# Altium schematic symbol library WE-SPXO.SchLib: 233 symbols (part 1 of 4)
Pins are listed as number, name and electrical type; pins without a type are passive.

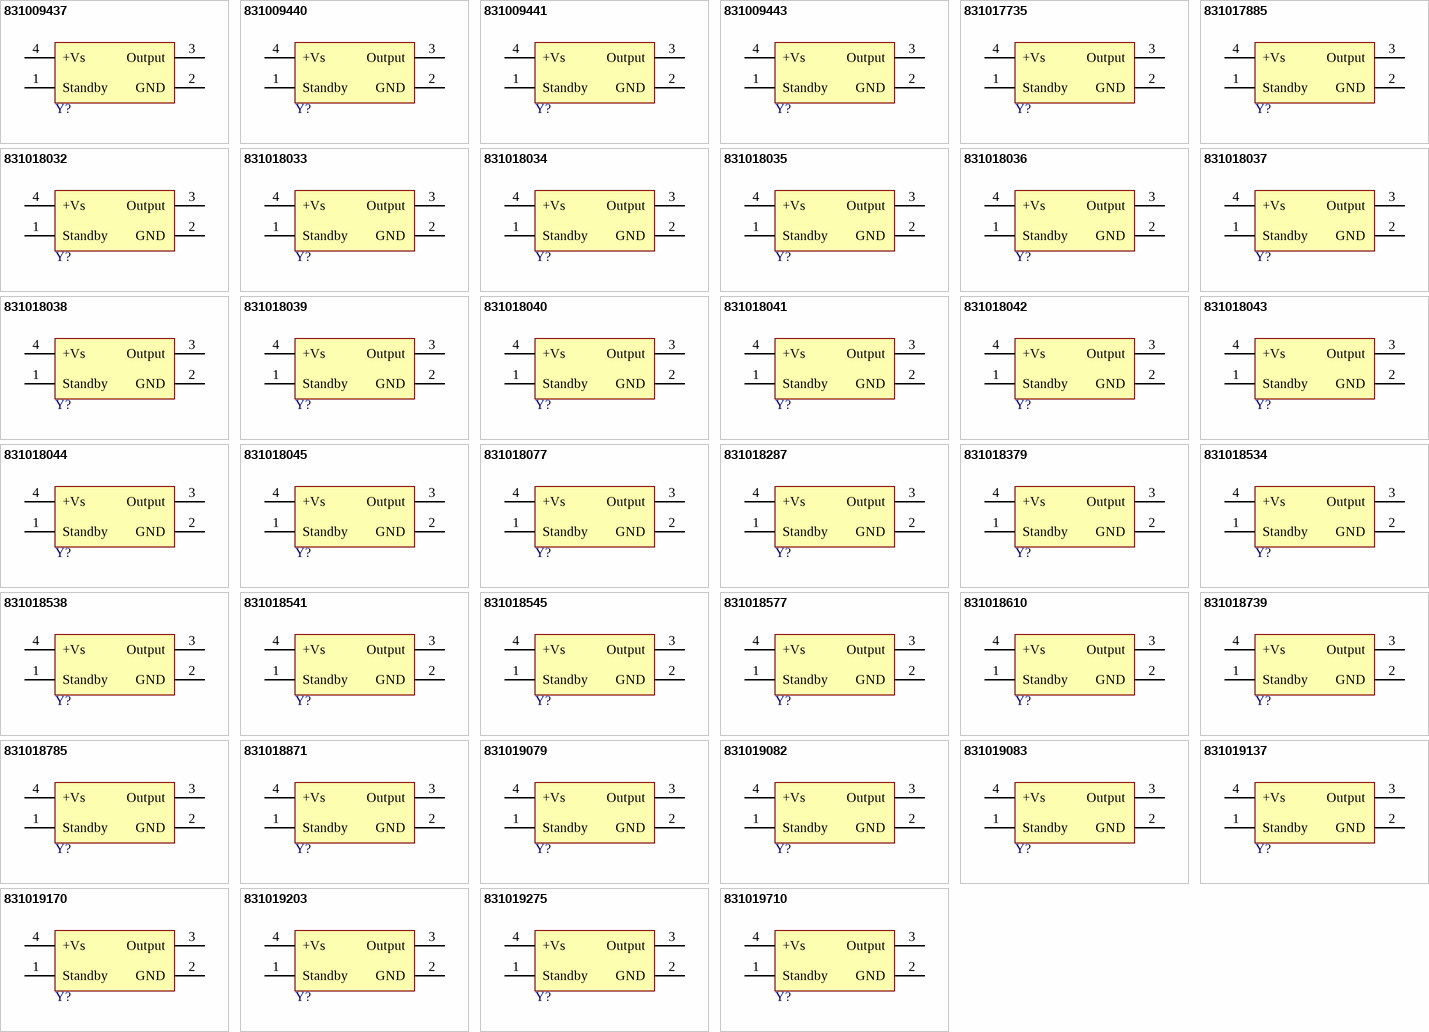
[diagram p0: symbols 831009437 to 831019710]

## 831009437
designator Y?, comment 100MHz, 3.3V  (value not drawn)
WE-SPXO Simple Packaged Quartz Oscillator, SMT, CFPS-73, 100MHz, 3.3V; Manufacturer Part Number: 831009437; Manufacturer: Wurth Elektronik; Frequency Stability: +/-50ppm; ComponentLink1Description: Website Link; ComponentLink1URL: https://www.we-online.com/redexpert/article/831009437?ad; ComponentLink2Description: Datasheet Link; ComponentLink2URL: https://www.we-online.com/redexpert/spec/831009437?ad; Category: Oscillators; Match Code: WE-SPXO; Mount: Surface Mount; Operating Temperature Max: 70°C; Operating Temperature Min: 0°C; Packaging: Tape and Reel; Case/Size Code: CFPS-73; Length: 7.2mm; Width: 5.2mm; Height: 1.4mm; Frequency: 100MHz; Supply Voltage: 3.3V
footprint WE-SPXO_CFPS-73
pins: 1 Standby, 2 GND, 3 Output, 4 +Vs

## 831009440
designator Y?, comment 125MHz, 3.3V  (value not drawn)
WE-SPXO Simple Packaged Quartz Oscillator, SMT, CFPS-73, 125MHz, 3.3V; Manufacturer Part Number: 831009440; Manufacturer: Wurth Elektronik; Frequency Stability: +/-50ppm; ComponentLink1Description: Website Link; ComponentLink1URL: https://www.we-online.com/redexpert/article/831009440?ad; ComponentLink2Description: Datasheet Link; ComponentLink2URL: https://www.we-online.com/redexpert/spec/831009440?ad; Category: Oscillators; Match Code: WE-SPXO; Mount: Surface Mount; Operating Temperature Max: 70°C; Operating Temperature Min: 0°C; Packaging: Tape and Reel; Case/Size Code: CFPS-73; Length: 7.2mm; Width: 5.2mm; Height: 1.4mm; Frequency: 125MHz; Supply Voltage: 3.3V
footprint WE-SPXO_CFPS-73
pins: 1 Standby, 2 GND, 3 Output, 4 +Vs

## 831009441
designator Y?, comment 80MHz, 3.3V  (value not drawn)
WE-SPXO Simple Packaged Quartz Oscillator, SMT, CFPS-73, 80MHz, 3.3V; Manufacturer Part Number: 831009441; Manufacturer: Wurth Elektronik; Frequency Stability: +/-50ppm; ComponentLink1Description: Website Link; ComponentLink1URL: https://www.we-online.com/redexpert/article/831009441?ad; ComponentLink2Description: Datasheet Link; ComponentLink2URL: https://www.we-online.com/redexpert/spec/831009441?ad; Category: Oscillators; Match Code: WE-SPXO; Mount: Surface Mount; Operating Temperature Max: 70°C; Operating Temperature Min: 0°C; Packaging: Tape and Reel; Case/Size Code: CFPS-73; Length: 7.2mm; Width: 5.2mm; Height: 1.4mm; Frequency: 80MHz; Supply Voltage: 3.3V
footprint WE-SPXO_CFPS-73
pins: 1 Standby, 2 GND, 3 Output, 4 +Vs

## 831009443
designator Y?, comment 80MHz, 5V  (value not drawn)
WE-SPXO Simple Packaged Quartz Oscillator, SMT, CFPS-72, 80MHz, 5V; Manufacturer Part Number: 831009443; Manufacturer: Wurth Elektronik; Frequency Stability: +/-50ppm; ComponentLink1Description: Website Link; ComponentLink1URL: https://www.we-online.com/redexpert/article/831009443?ad; ComponentLink2Description: Datasheet Link; ComponentLink2URL: https://www.we-online.com/redexpert/spec/831009443?ad; Category: Oscillators; Match Code: WE-SPXO; Mount: Surface Mount; Operating Temperature Max: 70°C; Operating Temperature Min: 0°C; Packaging: Tape and Reel; Case/Size Code: CFPS-72; Length: 7.2mm; Width: 5.2mm; Height: 1.4mm; Frequency: 80MHz; Supply Voltage: 5V
footprint WE-SPXO_CFPS-72
pins: 1 Standby, 2 GND, 3 Output, 4 +Vs

## 831017735
designator Y?, comment 10MHz, 5V  (value not drawn)
WE-SPXO Simple Packaged Quartz Oscillator, SMT, CFPS-72, 10MHz, 5V; Manufacturer Part Number: 831017735; Manufacturer: Wurth Elektronik; Frequency Stability: +/-50ppm; ComponentLink1Description: Website Link; ComponentLink1URL: https://www.we-online.com/redexpert/article/831017735?ad; ComponentLink2Description: Datasheet Link; ComponentLink2URL: https://www.we-online.com/redexpert/spec/831017735?ad; Category: Oscillators; Match Code: WE-SPXO; Mount: Surface Mount; Operating Temperature Max: 70°C; Operating Temperature Min: 0°C; Packaging: Tape and Reel; Case/Size Code: CFPS-72; Length: 7.2mm; Width: 5.2mm; Height: 1.4mm; Frequency: 10MHz; Supply Voltage: 5V
footprint WE-SPXO_CFPS-72
pins: 1 Standby, 2 GND, 3 Output, 4 +Vs

## 831017885
designator Y?, comment 40MHz, 3.3V  (value not drawn)
WE-SPXO Simple Packaged Quartz Oscillator, SMT, CFPS-73, 40MHz, 3.3V; Manufacturer Part Number: 831017885; Manufacturer: Wurth Elektronik; Frequency Stability: +/-50ppm; ComponentLink1Description: Website Link; ComponentLink1URL: https://www.we-online.com/redexpert/article/831017885?ad; ComponentLink2Description: Datasheet Link; ComponentLink2URL: https://www.we-online.com/redexpert/spec/831017885?ad; Category: Oscillators; Match Code: WE-SPXO; Mount: Surface Mount; Operating Temperature Max: 85°C; Operating Temperature Min: -40°C; Packaging: Tape and Reel; Case/Size Code: CFPS-73; Length: 7.2mm; Width: 5.2mm; Height: 1.4mm; Frequency: 40MHz; Supply Voltage: 3.3V
footprint WE-SPXO_CFPS-73
pins: 1 Standby, 2 GND, 3 Output, 4 +Vs

## 831018032
designator Y?, comment 20MHz, 5V  (value not drawn)
WE-SPXO Simple Packaged Quartz Oscillator, SMT, CFPS-72, 20MHz, 5V; Manufacturer Part Number: 831018032; Manufacturer: Wurth Elektronik; Frequency Stability: +/-50ppm; ComponentLink1Description: Website Link; ComponentLink1URL: https://www.we-online.com/redexpert/article/831018032?ad; ComponentLink2Description: Datasheet Link; ComponentLink2URL: https://www.we-online.com/redexpert/spec/831018032?ad; Category: Oscillators; Match Code: WE-SPXO; Mount: Surface Mount; Operating Temperature Max: 70°C; Operating Temperature Min: 0°C; Packaging: Tape and Reel; Case/Size Code: CFPS-72; Length: 7.2mm; Width: 5.2mm; Height: 1.4mm; Frequency: 20MHz; Supply Voltage: 5V
footprint WE-SPXO_CFPS-72
pins: 1 Standby, 2 GND, 3 Output, 4 +Vs

## 831018033
designator Y?, comment 4MHz, 5V  (value not drawn)
WE-SPXO Simple Packaged Quartz Oscillator, SMT, CFPS-72, 4MHz, 5V; Manufacturer Part Number: 831018033; Manufacturer: Wurth Elektronik; Frequency Stability: +/-50ppm; ComponentLink1Description: Website Link; ComponentLink1URL: https://www.we-online.com/redexpert/article/831018033?ad; ComponentLink2Description: Datasheet Link; ComponentLink2URL: https://www.we-online.com/redexpert/spec/831018033?ad; Category: Oscillators; Match Code: WE-SPXO; Mount: Surface Mount; Operating Temperature Max: 70°C; Operating Temperature Min: 0°C; Packaging: Tape and Reel; Case/Size Code: CFPS-72; Length: 7.2mm; Width: 5.2mm; Height: 1.4mm; Frequency: 4MHz; Supply Voltage: 5V
footprint WE-SPXO_CFPS-72
pins: 1 Standby, 2 GND, 3 Output, 4 +Vs

## 831018034
designator Y?, comment 16MHz, 5V  (value not drawn)
WE-SPXO Simple Packaged Quartz Oscillator, SMT, CFPS-72, 16MHz, 5V; Manufacturer Part Number: 831018034; Manufacturer: Wurth Elektronik; Frequency Stability: +/-50ppm; ComponentLink1Description: Website Link; ComponentLink1URL: https://www.we-online.com/redexpert/article/831018034?ad; ComponentLink2Description: Datasheet Link; ComponentLink2URL: https://www.we-online.com/redexpert/spec/831018034?ad; Category: Oscillators; Match Code: WE-SPXO; Mount: Surface Mount; Operating Temperature Max: 70°C; Operating Temperature Min: 0°C; Packaging: Tape and Reel; Case/Size Code: CFPS-72; Length: 7.2mm; Width: 5.2mm; Height: 1.4mm; Frequency: 16MHz; Supply Voltage: 5V
footprint WE-SPXO_CFPS-72
pins: 1 Standby, 2 GND, 3 Output, 4 +Vs

## 831018035
designator Y?, comment 50MHz, 5V  (value not drawn)
WE-SPXO Simple Packaged Quartz Oscillator, SMT, CFPS-72, 50MHz, 5V; Manufacturer Part Number: 831018035; Manufacturer: Wurth Elektronik; Frequency Stability: +/-50ppm; ComponentLink1Description: Website Link; ComponentLink1URL: https://www.we-online.com/redexpert/article/831018035?ad; ComponentLink2Description: Datasheet Link; ComponentLink2URL: https://www.we-online.com/redexpert/spec/831018035?ad; Category: Oscillators; Match Code: WE-SPXO; Mount: Surface Mount; Operating Temperature Max: 70°C; Operating Temperature Min: 0°C; Packaging: Tape and Reel; Case/Size Code: CFPS-72; Length: 7.2mm; Width: 5.2mm; Height: 1.4mm; Frequency: 50MHz; Supply Voltage: 5V
footprint WE-SPXO_CFPS-72
pins: 1 Standby, 2 GND, 3 Output, 4 +Vs

## 831018036
designator Y?, comment 10MHz, 3.3V  (value not drawn)
WE-SPXO Simple Packaged Quartz Oscillator, SMT, CFPS-73, 10MHz, 3.3V; Manufacturer Part Number: 831018036; Manufacturer: Wurth Elektronik; Frequency Stability: +/-50ppm; ComponentLink1Description: Website Link; ComponentLink1URL: https://www.we-online.com/redexpert/article/831018036?ad; ComponentLink2Description: Datasheet Link; ComponentLink2URL: https://www.we-online.com/redexpert/spec/831018036?ad; Category: Oscillators; Match Code: WE-SPXO; Mount: Surface Mount; Operating Temperature Max: 70°C; Operating Temperature Min: 0°C; Packaging: Tape and Reel; Case/Size Code: CFPS-73; Length: 7.2mm; Width: 5.2mm; Height: 1.4mm; Frequency: 10MHz; Supply Voltage: 3.3V
footprint WE-SPXO_CFPS-73
pins: 1 Standby, 2 GND, 3 Output, 4 +Vs

## 831018037
designator Y?, comment 12MHz, 3.3V  (value not drawn)
WE-SPXO Simple Packaged Quartz Oscillator, SMT, CFPS-73, 12MHz, 3.3V; Manufacturer Part Number: 831018037; Manufacturer: Wurth Elektronik; Frequency Stability: +/-50ppm; ComponentLink1Description: Website Link; ComponentLink1URL: https://www.we-online.com/redexpert/article/831018037?ad; ComponentLink2Description: Datasheet Link; ComponentLink2URL: https://www.we-online.com/redexpert/spec/831018037?ad; Category: Oscillators; Match Code: WE-SPXO; Mount: Surface Mount; Operating Temperature Max: 70°C; Operating Temperature Min: 0°C; Packaging: Tape and Reel; Case/Size Code: CFPS-73; Length: 7.2mm; Width: 5.2mm; Height: 1.4mm; Frequency: 12MHz; Supply Voltage: 3.3V
footprint WE-SPXO_CFPS-73
pins: 1 Standby, 2 GND, 3 Output, 4 +Vs

## 831018038
designator Y?, comment 16MHz, 3.3V  (value not drawn)
WE-SPXO Simple Packaged Quartz Oscillator, SMT, CFPS-73, 16MHz, 3.3V; Manufacturer Part Number: 831018038; Manufacturer: Wurth Elektronik; Frequency Stability: +/-50ppm; ComponentLink1Description: Website Link; ComponentLink1URL: https://www.we-online.com/redexpert/article/831018038?ad; ComponentLink2Description: Datasheet Link; ComponentLink2URL: https://www.we-online.com/redexpert/spec/831018038?ad; Category: Oscillators; Match Code: WE-SPXO; Mount: Surface Mount; Operating Temperature Max: 70°C; Operating Temperature Min: 0°C; Packaging: Tape and Reel; Case/Size Code: CFPS-73; Length: 7.2mm; Width: 5.2mm; Height: 1.4mm; Frequency: 16MHz; Supply Voltage: 3.3V
footprint WE-SPXO_CFPS-73
pins: 1 Standby, 2 GND, 3 Output, 4 +Vs

## 831018039
designator Y?, comment 20MHz, 3.3V  (value not drawn)
WE-SPXO Simple Packaged Quartz Oscillator, SMT, CFPS-73, 20MHz, 3.3V; Manufacturer Part Number: 831018039; Manufacturer: Wurth Elektronik; Frequency Stability: +/-50ppm; ComponentLink1Description: Website Link; ComponentLink1URL: https://www.we-online.com/redexpert/article/831018039?ad; ComponentLink2Description: Datasheet Link; ComponentLink2URL: https://www.we-online.com/redexpert/spec/831018039?ad; Category: Oscillators; Match Code: WE-SPXO; Mount: Surface Mount; Operating Temperature Max: 70°C; Operating Temperature Min: 0°C; Packaging: Tape and Reel; Case/Size Code: CFPS-73; Length: 7.2mm; Width: 5.2mm; Height: 1.4mm; Frequency: 20MHz; Supply Voltage: 3.3V
footprint WE-SPXO_CFPS-73
pins: 1 Standby, 2 GND, 3 Output, 4 +Vs

## 831018040
designator Y?, comment 32MHz, 3.3V  (value not drawn)
WE-SPXO Simple Packaged Quartz Oscillator, SMT, CFPS-73, 32MHz, 3.3V; Manufacturer Part Number: 831018040; Manufacturer: Wurth Elektronik; Frequency Stability: +/-50ppm; ComponentLink1Description: Website Link; ComponentLink1URL: https://www.we-online.com/redexpert/article/831018040?ad; ComponentLink2Description: Datasheet Link; ComponentLink2URL: https://www.we-online.com/redexpert/spec/831018040?ad; Category: Oscillators; Match Code: WE-SPXO; Mount: Surface Mount; Operating Temperature Max: 70°C; Operating Temperature Min: 0°C; Packaging: Tape and Reel; Case/Size Code: CFPS-73; Length: 7.2mm; Width: 5.2mm; Height: 1.4mm; Frequency: 32MHz; Supply Voltage: 3.3V
footprint WE-SPXO_CFPS-73
pins: 1 Standby, 2 GND, 3 Output, 4 +Vs

## 831018041
designator Y?, comment 4MHz, 3.3V  (value not drawn)
WE-SPXO Simple Packaged Quartz Oscillator, SMT, CFPS-73, 4MHz, 3.3V; Manufacturer Part Number: 831018041; Manufacturer: Wurth Elektronik; Frequency Stability: +/-50ppm; ComponentLink1Description: Website Link; ComponentLink1URL: https://www.we-online.com/redexpert/article/831018041?ad; ComponentLink2Description: Datasheet Link; ComponentLink2URL: https://www.we-online.com/redexpert/spec/831018041?ad; Category: Oscillators; Match Code: WE-SPXO; Mount: Surface Mount; Operating Temperature Max: 70°C; Operating Temperature Min: 0°C; Packaging: Tape and Reel; Case/Size Code: CFPS-73; Length: 7.2mm; Width: 5.2mm; Height: 1.4mm; Frequency: 4MHz; Supply Voltage: 3.3V
footprint WE-SPXO_CFPS-73
pins: 1 Standby, 2 GND, 3 Output, 4 +Vs

## 831018042
designator Y?, comment 40MHz, 3.3V  (value not drawn)
WE-SPXO Simple Packaged Quartz Oscillator, SMT, CFPS-73, 40MHz, 3.3V; Manufacturer Part Number: 831018042; Manufacturer: Wurth Elektronik; Frequency Stability: +/-50ppm; ComponentLink1Description: Website Link; ComponentLink1URL: https://www.we-online.com/redexpert/article/831018042?ad; ComponentLink2Description: Datasheet Link; ComponentLink2URL: https://www.we-online.com/redexpert/spec/831018042?ad; Category: Oscillators; Match Code: WE-SPXO; Mount: Surface Mount; Operating Temperature Max: 70°C; Operating Temperature Min: 0°C; Packaging: Tape and Reel; Case/Size Code: CFPS-73; Length: 7.2mm; Width: 5.2mm; Height: 1.4mm; Frequency: 40MHz; Supply Voltage: 3.3V
footprint WE-SPXO_CFPS-73
pins: 1 Standby, 2 GND, 3 Output, 4 +Vs

## 831018043
designator Y?, comment 48MHz, 3.3V  (value not drawn)
WE-SPXO Simple Packaged Quartz Oscillator, SMT, CFPS-73, 48MHz, 3.3V; Manufacturer Part Number: 831018043; Manufacturer: Wurth Elektronik; Frequency Stability: +/-50ppm; ComponentLink1Description: Website Link; ComponentLink1URL: https://www.we-online.com/redexpert/article/831018043?ad; ComponentLink2Description: Datasheet Link; ComponentLink2URL: https://www.we-online.com/redexpert/spec/831018043?ad; Category: Oscillators; Match Code: WE-SPXO; Mount: Surface Mount; Operating Temperature Max: 70°C; Operating Temperature Min: 0°C; Packaging: Tape and Reel; Case/Size Code: CFPS-73; Length: 7.2mm; Width: 5.2mm; Height: 1.4mm; Frequency: 48MHz; Supply Voltage: 3.3V
footprint WE-SPXO_CFPS-73
pins: 1 Standby, 2 GND, 3 Output, 4 +Vs

## 831018044
designator Y?, comment 50MHz, 3.3V  (value not drawn)
WE-SPXO Simple Packaged Quartz Oscillator, SMT, CFPS-73, 50MHz, 3.3V; Manufacturer Part Number: 831018044; Manufacturer: Wurth Elektronik; Frequency Stability: +/-50ppm; ComponentLink1Description: Website Link; ComponentLink1URL: https://www.we-online.com/redexpert/article/831018044?ad; ComponentLink2Description: Datasheet Link; ComponentLink2URL: https://www.we-online.com/redexpert/spec/831018044?ad; Category: Oscillators; Match Code: WE-SPXO; Mount: Surface Mount; Operating Temperature Max: 70°C; Operating Temperature Min: 0°C; Packaging: Tape and Reel; Case/Size Code: CFPS-73; Length: 7.2mm; Width: 5.2mm; Height: 1.4mm; Frequency: 50MHz; Supply Voltage: 3.3V
footprint WE-SPXO_CFPS-73
pins: 1 Standby, 2 GND, 3 Output, 4 +Vs

## 831018045
designator Y?, comment 8MHz, 3.3V  (value not drawn)
WE-SPXO Simple Packaged Quartz Oscillator, SMT, CFPS-73, 8MHz, 3.3V; Manufacturer Part Number: 831018045; Manufacturer: Wurth Elektronik; Frequency Stability: +/-50ppm; ComponentLink1Description: Website Link; ComponentLink1URL: https://www.we-online.com/redexpert/article/831018045?ad; ComponentLink2Description: Datasheet Link; ComponentLink2URL: https://www.we-online.com/redexpert/spec/831018045?ad; Category: Oscillators; Match Code: WE-SPXO; Mount: Surface Mount; Operating Temperature Max: 70°C; Operating Temperature Min: 0°C; Packaging: Tape and Reel; Case/Size Code: CFPS-73; Length: 7.2mm; Width: 5.2mm; Height: 1.4mm; Frequency: 8MHz; Supply Voltage: 3.3V
footprint WE-SPXO_CFPS-73
pins: 1 Standby, 2 GND, 3 Output, 4 +Vs

## 831018077
designator Y?, comment 25MHz, 3.3V  (value not drawn)
WE-SPXO Simple Packaged Quartz Oscillator, SMT, CFPS-73, 25MHz, 3.3V; Manufacturer Part Number: 831018077; Manufacturer: Wurth Elektronik; Frequency Stability: +/-50ppm; ComponentLink1Description: Website Link; ComponentLink1URL: https://www.we-online.com/redexpert/article/831018077?ad; ComponentLink2Description: Datasheet Link; ComponentLink2URL: https://www.we-online.com/redexpert/spec/831018077?ad; Category: Oscillators; Match Code: WE-SPXO; Mount: Surface Mount; Operating Temperature Max: 70°C; Operating Temperature Min: 0°C; Packaging: Tape and Reel; Case/Size Code: CFPS-73; Length: 7.2mm; Width: 5.2mm; Height: 1.4mm; Frequency: 25MHz; Supply Voltage: 3.3V
footprint WE-SPXO_CFPS-73
pins: 1 Standby, 2 GND, 3 Output, 4 +Vs

## 831018287
designator Y?, comment 48MHz, 3.3V  (value not drawn)
WE-SPXO Simple Packaged Quartz Oscillator, SMT, CFPS-73, 48MHz, 3.3V; Manufacturer Part Number: 831018287; Manufacturer: Wurth Elektronik; Frequency Stability: +/-100ppm; ComponentLink1Description: Website Link; ComponentLink1URL: https://www.we-online.com/redexpert/article/831018287?ad; ComponentLink2Description: Datasheet Link; ComponentLink2URL: https://www.we-online.com/redexpert/spec/831018287?ad; Category: Oscillators; Match Code: WE-SPXO; Mount: Surface Mount; Operating Temperature Max: 85°C; Operating Temperature Min: -40°C; Packaging: Tape and Reel; Case/Size Code: CFPS-73; Length: 7.2mm; Width: 5.2mm; Height: 1.4mm; Frequency: 48MHz; Supply Voltage: 3.3V
footprint WE-SPXO_CFPS-73
pins: 1 Standby, 2 GND, 3 Output, 4 +Vs

## 831018379
designator Y?, comment 4MHz, 3.3V  (value not drawn)
WE-SPXO Simple Packaged Quartz Oscillator, SMT, CFPS-73, 4MHz, 3.3V; Manufacturer Part Number: 831018379; Manufacturer: Wurth Elektronik; Frequency Stability: +/-50ppm; ComponentLink1Description: Website Link; ComponentLink1URL: https://www.we-online.com/redexpert/article/831018379?ad; ComponentLink2Description: Datasheet Link; ComponentLink2URL: https://www.we-online.com/redexpert/spec/831018379?ad; Category: Oscillators; Match Code: WE-SPXO; Mount: Surface Mount; Operating Temperature Max: 85°C; Operating Temperature Min: -40°C; Packaging: Tape and Reel; Case/Size Code: CFPS-73; Length: 7.2mm; Width: 5.2mm; Height: 1.4mm; Frequency: 4MHz; Supply Voltage: 3.3V
footprint WE-SPXO_CFPS-73
pins: 1 Standby, 2 GND, 3 Output, 4 +Vs

## 831018534
designator Y?, comment 6MHz, 3.3V  (value not drawn)
WE-SPXO Simple Packaged Quartz Oscillator, SMT, CFPS-73, 6MHz, 3.3V; Manufacturer Part Number: 831018534; Manufacturer: Wurth Elektronik; Frequency Stability: +/-50ppm; ComponentLink1Description: Website Link; ComponentLink1URL: https://www.we-online.com/redexpert/article/831018534?ad; ComponentLink2Description: Datasheet Link; ComponentLink2URL: https://www.we-online.com/redexpert/spec/831018534?ad; Category: Oscillators; Match Code: WE-SPXO; Mount: Surface Mount; Operating Temperature Max: 70°C; Operating Temperature Min: 0°C; Packaging: Tape and Reel; Case/Size Code: CFPS-73; Length: 7.2mm; Width: 5.2mm; Height: 1.4mm; Frequency: 6MHz; Supply Voltage: 3.3V
footprint WE-SPXO_CFPS-73
pins: 1 Standby, 2 GND, 3 Output, 4 +Vs

## 831018538
designator Y?, comment 14.31818MHz, 3.3V  (value not drawn)
WE-SPXO Simple Packaged Quartz Oscillator, SMT, CFPS-73, 14.31818MHz, 3.3V; Manufacturer Part Number: 831018538; Manufacturer: Wurth Elektronik; Frequency Stability: +/-50ppm; ComponentLink1Description: Website Link; ComponentLink1URL: https://www.we-online.com/redexpert/article/831018538?ad; ComponentLink2Description: Datasheet Link; ComponentLink2URL: https://www.we-online.com/redexpert/spec/831018538?ad; Category: Oscillators; Match Code: WE-SPXO; Mount: Surface Mount; Operating Temperature Max: 70°C; Operating Temperature Min: 0°C; Packaging: Tape and Reel; Case/Size Code: CFPS-73; Length: 7.2mm; Width: 5.2mm; Height: 1.4mm; Frequency: 14.31818MHz; Supply Voltage: 3.3V
footprint WE-SPXO_CFPS-73
pins: 1 Standby, 2 GND, 3 Output, 4 +Vs

## 831018541
designator Y?, comment 24MHz, 3.3V  (value not drawn)
WE-SPXO Simple Packaged Quartz Oscillator, SMT, CFPS-73, 24MHz, 3.3V; Manufacturer Part Number: 831018541; Manufacturer: Wurth Elektronik; Frequency Stability: +/-50ppm; ComponentLink1Description: Website Link; ComponentLink1URL: https://www.we-online.com/redexpert/article/831018541?ad; ComponentLink2Description: Datasheet Link; ComponentLink2URL: https://www.we-online.com/redexpert/spec/831018541?ad; Category: Oscillators; Match Code: WE-SPXO; Mount: Surface Mount; Operating Temperature Max: 70°C; Operating Temperature Min: 0°C; Packaging: Tape and Reel; Case/Size Code: CFPS-73; Length: 7.2mm; Width: 5.2mm; Height: 1.4mm; Frequency: 24MHz; Supply Voltage: 3.3V
footprint WE-SPXO_CFPS-73
pins: 1 Standby, 2 GND, 3 Output, 4 +Vs

## 831018545
designator Y?, comment 60MHz, 3.3V  (value not drawn)
WE-SPXO Simple Packaged Quartz Oscillator, SMT, CFPS-73, 60MHz, 3.3V; Manufacturer Part Number: 831018545; Manufacturer: Wurth Elektronik; Frequency Stability: +/-50ppm; ComponentLink1Description: Website Link; ComponentLink1URL: https://www.we-online.com/redexpert/article/831018545?ad; ComponentLink2Description: Datasheet Link; ComponentLink2URL: https://www.we-online.com/redexpert/spec/831018545?ad; Category: Oscillators; Match Code: WE-SPXO; Mount: Surface Mount; Operating Temperature Max: 70°C; Operating Temperature Min: 0°C; Packaging: Tape and Reel; Case/Size Code: CFPS-73; Length: 7.2mm; Width: 5.2mm; Height: 1.4mm; Frequency: 60MHz; Supply Voltage: 3.3V
footprint WE-SPXO_CFPS-73
pins: 1 Standby, 2 GND, 3 Output, 4 +Vs

## 831018577
designator Y?, comment 48MHz, 3.3V  (value not drawn)
WE-SPXO Simple Packaged Quartz Oscillator, SMT, CFPS-73, 48MHz, 3.3V; Manufacturer Part Number: 831018577; Manufacturer: Wurth Elektronik; Frequency Stability: +/-50ppm; ComponentLink1Description: Website Link; ComponentLink1URL: https://www.we-online.com/redexpert/article/831018577?ad; ComponentLink2Description: Datasheet Link; ComponentLink2URL: https://www.we-online.com/redexpert/spec/831018577?ad; Category: Oscillators; Match Code: WE-SPXO; Mount: Surface Mount; Operating Temperature Max: 85°C; Operating Temperature Min: -40°C; Packaging: Tape and Reel; Case/Size Code: CFPS-73; Length: 7.2mm; Width: 5.2mm; Height: 1.4mm; Frequency: 48MHz; Supply Voltage: 3.3V
footprint WE-SPXO_CFPS-73
pins: 1 Standby, 2 GND, 3 Output, 4 +Vs

## 831018610
designator Y?, comment 3.6864MHz, 3.3V  (value not drawn)
WE-SPXO Simple Packaged Quartz Oscillator, SMT, CFPS-73, 3.6864MHz, 3.3V; Manufacturer Part Number: 831018610; Manufacturer: Wurth Elektronik; Frequency Stability: +/-50ppm; ComponentLink1Description: Website Link; ComponentLink1URL: https://www.we-online.com/redexpert/article/831018610?ad; ComponentLink2Description: Datasheet Link; ComponentLink2URL: https://www.we-online.com/redexpert/spec/831018610?ad; Category: Oscillators; Match Code: WE-SPXO; Mount: Surface Mount; Operating Temperature Max: 70°C; Operating Temperature Min: 0°C; Packaging: Tape and Reel; Case/Size Code: CFPS-73; Length: 7.2mm; Width: 5.2mm; Height: 1.4mm; Frequency: 3.6864MHz; Supply Voltage: 3.3V
footprint WE-SPXO_CFPS-73
pins: 1 Standby, 2 GND, 3 Output, 4 +Vs

## 831018739
designator Y?, comment 40MHz, 5V  (value not drawn)
WE-SPXO Simple Packaged Quartz Oscillator, SMT, CFPS-72, 40MHz, 5V; Manufacturer Part Number: 831018739; Manufacturer: Wurth Elektronik; Frequency Stability: +/-50ppm; ComponentLink1Description: Website Link; ComponentLink1URL: https://www.we-online.com/redexpert/article/831018739?ad; ComponentLink2Description: Datasheet Link; ComponentLink2URL: https://www.we-online.com/redexpert/spec/831018739?ad; Category: Oscillators; Match Code: WE-SPXO; Mount: Surface Mount; Operating Temperature Max: 70°C; Operating Temperature Min: 0°C; Packaging: Tape and Reel; Case/Size Code: CFPS-72; Length: 7.2mm; Width: 5.2mm; Height: 1.4mm; Frequency: 40MHz; Supply Voltage: 5V
footprint WE-SPXO_CFPS-72
pins: 1 Standby, 2 GND, 3 Output, 4 +Vs

## 831018785
designator Y?, comment 12MHz, 3.3V  (value not drawn)
WE-SPXO Simple Packaged Quartz Oscillator, SMT, CFPS-73, 12MHz, 3.3V; Manufacturer Part Number: 831018785; Manufacturer: Wurth Elektronik; Frequency Stability: +/-100ppm; ComponentLink1Description: Website Link; ComponentLink1URL: https://www.we-online.com/redexpert/article/831018785?ad; ComponentLink2Description: Datasheet Link; ComponentLink2URL: https://www.we-online.com/redexpert/spec/831018785?ad; Category: Oscillators; Match Code: WE-SPXO; Mount: Surface Mount; Operating Temperature Max: 85°C; Operating Temperature Min: -40°C; Packaging: Tape and Reel; Case/Size Code: CFPS-73; Length: 7.2mm; Width: 5.2mm; Height: 1.4mm; Frequency: 12MHz; Supply Voltage: 3.3V
footprint WE-SPXO_CFPS-73
pins: 1 Standby, 2 GND, 3 Output, 4 +Vs

## 831018871
designator Y?, comment 48MHz, 5V  (value not drawn)
WE-SPXO Simple Packaged Quartz Oscillator, SMT, CFPS-72, 48MHz, 5V; Manufacturer Part Number: 831018871; Manufacturer: Wurth Elektronik; Frequency Stability: +/-100ppm; ComponentLink1Description: Website Link; ComponentLink1URL: https://www.we-online.com/redexpert/article/831018871?ad; ComponentLink2Description: Datasheet Link; ComponentLink2URL: https://www.we-online.com/redexpert/spec/831018871?ad; Category: Oscillators; Match Code: WE-SPXO; Mount: Surface Mount; Operating Temperature Max: 85°C; Operating Temperature Min: -40°C; Packaging: Tape and Reel; Case/Size Code: CFPS-72; Length: 7.2mm; Width: 5.2mm; Height: 1.4mm; Frequency: 48MHz; Supply Voltage: 5V
footprint WE-SPXO_CFPS-72
pins: 1 Standby, 2 GND, 3 Output, 4 +Vs

## 831019079
designator Y?, comment 8MHz, 5V  (value not drawn)
WE-SPXO Simple Packaged Quartz Oscillator, SMT, CFPS-72, 8MHz, 5V; Manufacturer Part Number: 831019079; Manufacturer: Wurth Elektronik; Frequency Stability: +/-50ppm; ComponentLink1Description: Website Link; ComponentLink1URL: https://www.we-online.com/redexpert/article/831019079?ad; ComponentLink2Description: Datasheet Link; ComponentLink2URL: https://www.we-online.com/redexpert/spec/831019079?ad; Category: Oscillators; Match Code: WE-SPXO; Mount: Surface Mount; Operating Temperature Max: 70°C; Operating Temperature Min: 0°C; Packaging: Tape and Reel; Case/Size Code: CFPS-72; Length: 7.2mm; Width: 5.2mm; Height: 1.4mm; Frequency: 8MHz; Supply Voltage: 5V
footprint WE-SPXO_CFPS-72
pins: 1 Standby, 2 GND, 3 Output, 4 +Vs

## 831019082
designator Y?, comment 24MHz, 5V  (value not drawn)
WE-SPXO Simple Packaged Quartz Oscillator, SMT, CFPS-72, 24MHz, 5V; Manufacturer Part Number: 831019082; Manufacturer: Wurth Elektronik; Frequency Stability: +/-50ppm; ComponentLink1Description: Website Link; ComponentLink1URL: https://www.we-online.com/redexpert/article/831019082?ad; ComponentLink2Description: Datasheet Link; ComponentLink2URL: https://www.we-online.com/redexpert/spec/831019082?ad; Category: Oscillators; Match Code: WE-SPXO; Mount: Surface Mount; Operating Temperature Max: 70°C; Operating Temperature Min: 0°C; Packaging: Tape and Reel; Case/Size Code: CFPS-72; Length: 7.2mm; Width: 5.2mm; Height: 1.4mm; Frequency: 24MHz; Supply Voltage: 5V
footprint WE-SPXO_CFPS-72
pins: 1 Standby, 2 GND, 3 Output, 4 +Vs

## 831019083
designator Y?, comment 32MHz, 5V  (value not drawn)
WE-SPXO Simple Packaged Quartz Oscillator, SMT, CFPS-72, 32MHz, 5V; Manufacturer Part Number: 831019083; Manufacturer: Wurth Elektronik; Frequency Stability: +/-50ppm; ComponentLink1Description: Website Link; ComponentLink1URL: https://www.we-online.com/redexpert/article/831019083?ad; ComponentLink2Description: Datasheet Link; ComponentLink2URL: https://www.we-online.com/redexpert/spec/831019083?ad; Category: Oscillators; Match Code: WE-SPXO; Mount: Surface Mount; Operating Temperature Max: 70°C; Operating Temperature Min: 0°C; Packaging: Tape and Reel; Case/Size Code: CFPS-72; Length: 7.2mm; Width: 5.2mm; Height: 1.4mm; Frequency: 32MHz; Supply Voltage: 5V
footprint WE-SPXO_CFPS-72
pins: 1 Standby, 2 GND, 3 Output, 4 +Vs

## 831019137
designator Y?, comment 40MHz, 5V  (value not drawn)
WE-SPXO Simple Packaged Quartz Oscillator, SMT, CFPS-72, 40MHz, 5V; Manufacturer Part Number: 831019137; Manufacturer: Wurth Elektronik; Frequency Stability: +/-50ppm; ComponentLink1Description: Website Link; ComponentLink1URL: https://www.we-online.com/redexpert/article/831019137?ad; ComponentLink2Description: Datasheet Link; ComponentLink2URL: https://www.we-online.com/redexpert/spec/831019137?ad; Category: Oscillators; Match Code: WE-SPXO; Mount: Surface Mount; Operating Temperature Max: 85°C; Operating Temperature Min: -40°C; Packaging: Tape and Reel; Case/Size Code: CFPS-72; Length: 7.2mm; Width: 5.2mm; Height: 1.4mm; Frequency: 40MHz; Supply Voltage: 5V
footprint WE-SPXO_CFPS-72
pins: 1 Standby, 2 GND, 3 Output, 4 +Vs

## 831019170
designator Y?, comment 25MHz, 3.3V  (value not drawn)
WE-SPXO Simple Packaged Quartz Oscillator, SMT, CFPS-73, 25MHz, 3.3V; Manufacturer Part Number: 831019170; Manufacturer: Wurth Elektronik; Frequency Stability: +/-50ppm; ComponentLink1Description: Website Link; ComponentLink1URL: https://www.we-online.com/redexpert/article/831019170?ad; ComponentLink2Description: Datasheet Link; ComponentLink2URL: https://www.we-online.com/redexpert/spec/831019170?ad; Category: Oscillators; Match Code: WE-SPXO; Mount: Surface Mount; Operating Temperature Max: 85°C; Operating Temperature Min: -40°C; Packaging: Tape and Reel; Case/Size Code: CFPS-73; Length: 7.2mm; Width: 5.2mm; Height: 1.4mm; Frequency: 25MHz; Supply Voltage: 3.3V
footprint WE-SPXO_CFPS-73
pins: 1 Standby, 2 GND, 3 Output, 4 +Vs

## 831019203
designator Y?, comment 32.768MHz, 3.3V  (value not drawn)
WE-SPXO Simple Packaged Quartz Oscillator, SMT, CFPS-73, 32.768MHz, 3.3V; Manufacturer Part Number: 831019203; Manufacturer: Wurth Elektronik; Frequency Stability: +/-50ppm; ComponentLink1Description: Website Link; ComponentLink1URL: https://www.we-online.com/redexpert/article/831019203?ad; ComponentLink2Description: Datasheet Link; ComponentLink2URL: https://www.we-online.com/redexpert/spec/831019203?ad; Category: Oscillators; Match Code: WE-SPXO; Mount: Surface Mount; Operating Temperature Max: 70°C; Operating Temperature Min: 0°C; Packaging: Tape and Reel; Case/Size Code: CFPS-73; Length: 7.2mm; Width: 5.2mm; Height: 1.4mm; Frequency: 32.768MHz; Supply Voltage: 3.3V
footprint WE-SPXO_CFPS-73
pins: 1 Standby, 2 GND, 3 Output, 4 +Vs

## 831019275
designator Y?, comment 16MHz, 5V  (value not drawn)
WE-SPXO Simple Packaged Quartz Oscillator, SMT, CFPS-72, 16MHz, 5V; Manufacturer Part Number: 831019275; Manufacturer: Wurth Elektronik; Frequency Stability: +/-50ppm; ComponentLink1Description: Website Link; ComponentLink1URL: https://www.we-online.com/redexpert/article/831019275?ad; ComponentLink2Description: Datasheet Link; ComponentLink2URL: https://www.we-online.com/redexpert/spec/831019275?ad; Category: Oscillators; Match Code: WE-SPXO; Mount: Surface Mount; Operating Temperature Max: 85°C; Operating Temperature Min: -40°C; Packaging: Tape and Reel; Case/Size Code: CFPS-72; Length: 7.2mm; Width: 5.2mm; Height: 1.4mm; Frequency: 16MHz; Supply Voltage: 5V
footprint WE-SPXO_CFPS-72
pins: 1 Standby, 2 GND, 3 Output, 4 +Vs

## 831019710
designator Y?, comment 16MHz, 3.3V  (value not drawn)
WE-SPXO Simple Packaged Quartz Oscillator, SMT, CFPS-73, 16MHz, 3.3V; Manufacturer Part Number: 831019710; Manufacturer: Wurth Elektronik; Frequency Stability: +/-50ppm; ComponentLink1Description: Website Link; ComponentLink1URL: https://www.we-online.com/redexpert/article/831019710?ad; ComponentLink2Description: Datasheet Link; ComponentLink2URL: https://www.we-online.com/redexpert/spec/831019710?ad; Category: Oscillators; Match Code: WE-SPXO; Mount: Surface Mount; Operating Temperature Max: 85°C; Operating Temperature Min: -40°C; Packaging: Tape and Reel; Case/Size Code: CFPS-73; Length: 7.2mm; Width: 5.2mm; Height: 1.4mm; Frequency: 16MHz; Supply Voltage: 3.3V
footprint WE-SPXO_CFPS-73
pins: 1 Standby, 2 GND, 3 Output, 4 +Vs

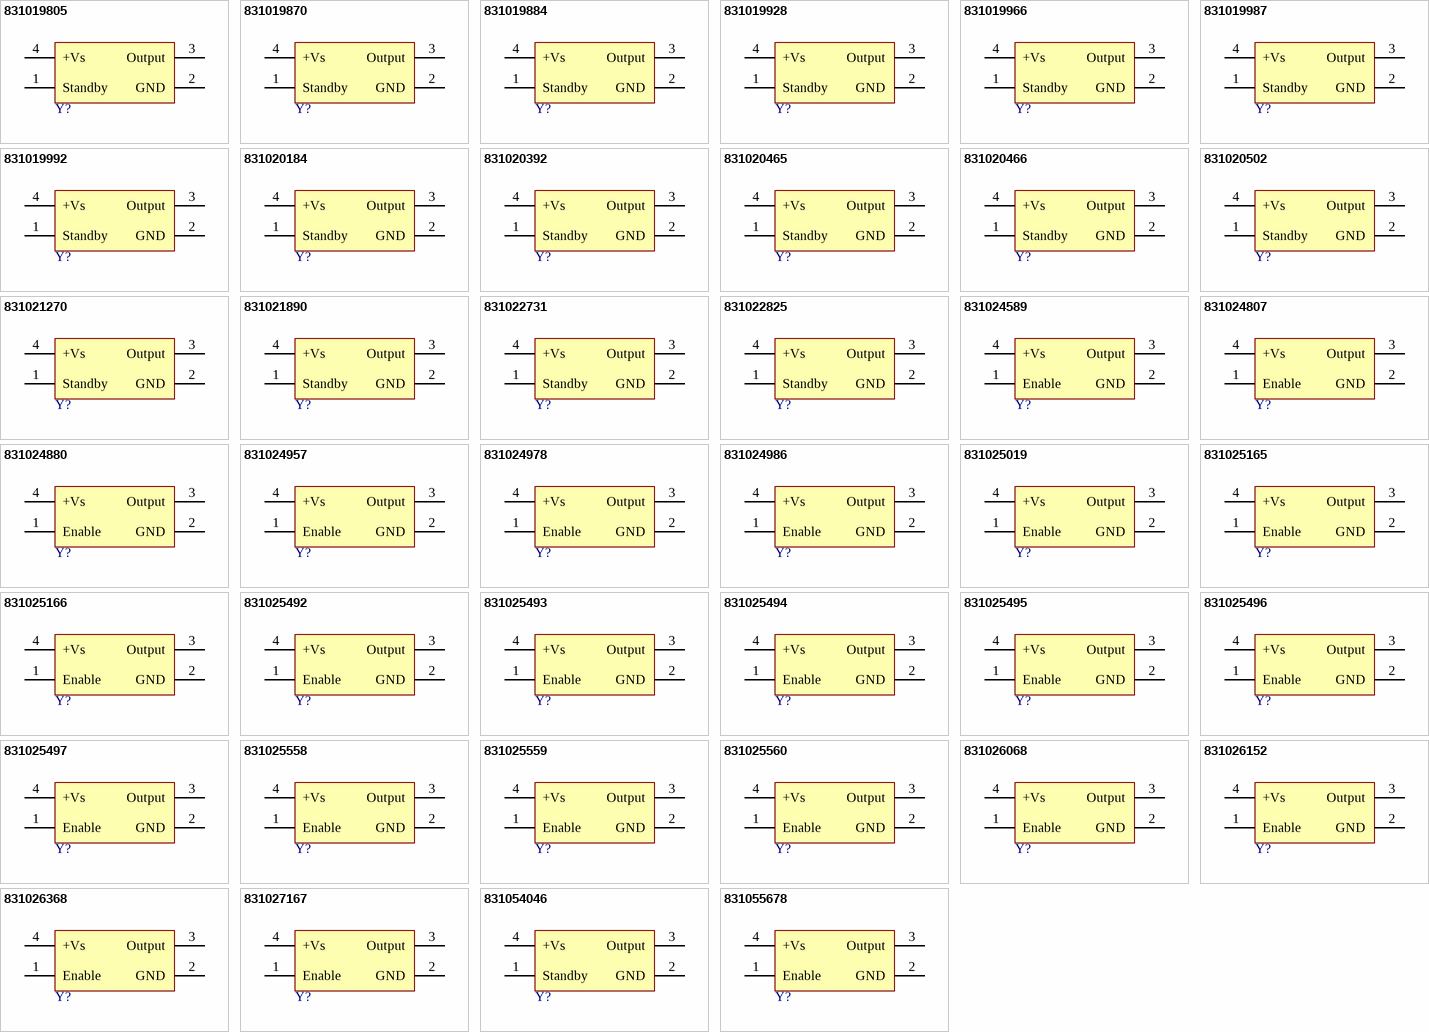
[diagram p1: symbols 831019805 to 831055678]

## 831019805
designator Y?, comment 48MHz, 5V  (value not drawn)
WE-SPXO Simple Packaged Quartz Oscillator, SMT, CFPS-72, 48MHz, 5V; Manufacturer Part Number: 831019805; Manufacturer: Wurth Elektronik; Frequency Stability: +/-50ppm; ComponentLink1Description: Website Link; ComponentLink1URL: https://www.we-online.com/redexpert/article/831019805?ad; ComponentLink2Description: Datasheet Link; ComponentLink2URL: https://www.we-online.com/redexpert/spec/831019805?ad; Category: Oscillators; Match Code: WE-SPXO; Mount: Surface Mount; Operating Temperature Max: 85°C; Operating Temperature Min: -40°C; Packaging: Tape and Reel; Case/Size Code: CFPS-72; Length: 7.2mm; Width: 5.2mm; Height: 1.4mm; Frequency: 48MHz; Supply Voltage: 5V
footprint WE-SPXO_CFPS-72
pins: 1 Standby, 2 GND, 3 Output, 4 +Vs

## 831019870
designator Y?, comment 40MHz, 3.3V  (value not drawn)
WE-SPXO Simple Packaged Quartz Oscillator, SMT, CFPS-73, 40MHz, 3.3V; Manufacturer Part Number: 831019870; Manufacturer: Wurth Elektronik; Frequency Stability: +/-100ppm; ComponentLink1Description: Website Link; ComponentLink1URL: https://www.we-online.com/redexpert/article/831019870?ad; ComponentLink2Description: Datasheet Link; ComponentLink2URL: https://www.we-online.com/redexpert/spec/831019870?ad; Category: Oscillators; Match Code: WE-SPXO; Mount: Surface Mount; Operating Temperature Max: 85°C; Operating Temperature Min: -40°C; Packaging: Tape and Reel; Case/Size Code: CFPS-73; Length: 7.2mm; Width: 5.2mm; Height: 1.4mm; Frequency: 40MHz; Supply Voltage: 3.3V
footprint WE-SPXO_CFPS-73
pins: 1 Standby, 2 GND, 3 Output, 4 +Vs

## 831019884
designator Y?, comment 48MHz, 5V  (value not drawn)
WE-SPXO Simple Packaged Quartz Oscillator, SMT, CFPS-72, 48MHz, 5V; Manufacturer Part Number: 831019884; Manufacturer: Wurth Elektronik; Frequency Stability: +/-50ppm; ComponentLink1Description: Website Link; ComponentLink1URL: https://www.we-online.com/redexpert/article/831019884?ad; ComponentLink2Description: Datasheet Link; ComponentLink2URL: https://www.we-online.com/redexpert/spec/831019884?ad; Category: Oscillators; Match Code: WE-SPXO; Mount: Surface Mount; Operating Temperature Max: 70°C; Operating Temperature Min: 0°C; Packaging: Tape and Reel; Case/Size Code: CFPS-72; Length: 7.2mm; Width: 5.2mm; Height: 1.4mm; Frequency: 48MHz; Supply Voltage: 5V
footprint WE-SPXO_CFPS-72
pins: 1 Standby, 2 GND, 3 Output, 4 +Vs

## 831019928
designator Y?, comment 10MHz, 3.3V  (value not drawn)
WE-SPXO Simple Packaged Quartz Oscillator, SMT, CFPS-73, 10MHz, 3.3V; Manufacturer Part Number: 831019928; Manufacturer: Wurth Elektronik; Frequency Stability: +/-50ppm; ComponentLink1Description: Website Link; ComponentLink1URL: https://www.we-online.com/redexpert/article/831019928?ad; ComponentLink2Description: Datasheet Link; ComponentLink2URL: https://www.we-online.com/redexpert/spec/831019928?ad; Category: Oscillators; Match Code: WE-SPXO; Mount: Surface Mount; Operating Temperature Max: 85°C; Operating Temperature Min: -40°C; Packaging: Tape and Reel; Case/Size Code: CFPS-73; Length: 7.2mm; Width: 5.2mm; Height: 1.4mm; Frequency: 10MHz; Supply Voltage: 3.3V
footprint WE-SPXO_CFPS-73
pins: 1 Standby, 2 GND, 3 Output, 4 +Vs

## 831019966
designator Y?, comment 12MHz, 3.3V  (value not drawn)
WE-SPXO Simple Packaged Quartz Oscillator, SMT, CFPS-73, 12MHz, 3.3V; Manufacturer Part Number: 831019966; Manufacturer: Wurth Elektronik; Frequency Stability: +/-50ppm; ComponentLink1Description: Website Link; ComponentLink1URL: https://www.we-online.com/redexpert/article/831019966?ad; ComponentLink2Description: Datasheet Link; ComponentLink2URL: https://www.we-online.com/redexpert/spec/831019966?ad; Category: Oscillators; Match Code: WE-SPXO; Mount: Surface Mount; Operating Temperature Max: 85°C; Operating Temperature Min: -40°C; Packaging: Tape and Reel; Case/Size Code: CFPS-73; Length: 7.2mm; Width: 5.2mm; Height: 1.4mm; Frequency: 12MHz; Supply Voltage: 3.3V
footprint WE-SPXO_CFPS-73
pins: 1 Standby, 2 GND, 3 Output, 4 +Vs

## 831019987
designator Y?, comment 50MHz, 3.3V  (value not drawn)
WE-SPXO Simple Packaged Quartz Oscillator, SMT, CFPS-73, 50MHz, 3.3V; Manufacturer Part Number: 831019987; Manufacturer: Wurth Elektronik; Frequency Stability: +/-50ppm; ComponentLink1Description: Website Link; ComponentLink1URL: https://www.we-online.com/redexpert/article/831019987?ad; ComponentLink2Description: Datasheet Link; ComponentLink2URL: https://www.we-online.com/redexpert/spec/831019987?ad; Category: Oscillators; Match Code: WE-SPXO; Mount: Surface Mount; Operating Temperature Max: 85°C; Operating Temperature Min: -40°C; Packaging: Tape and Reel; Case/Size Code: CFPS-73; Length: 7.2mm; Width: 5.2mm; Height: 1.4mm; Frequency: 50MHz; Supply Voltage: 3.3V
footprint WE-SPXO_CFPS-73
pins: 1 Standby, 2 GND, 3 Output, 4 +Vs

## 831019992
designator Y?, comment 20MHz, 3.3V  (value not drawn)
WE-SPXO Simple Packaged Quartz Oscillator, SMT, CFPS-73, 20MHz, 3.3V; Manufacturer Part Number: 831019992; Manufacturer: Wurth Elektronik; Frequency Stability: +/-50ppm; ComponentLink1Description: Website Link; ComponentLink1URL: https://www.we-online.com/redexpert/article/831019992?ad; ComponentLink2Description: Datasheet Link; ComponentLink2URL: https://www.we-online.com/redexpert/spec/831019992?ad; Category: Oscillators; Match Code: WE-SPXO; Mount: Surface Mount; Operating Temperature Max: 85°C; Operating Temperature Min: -40°C; Packaging: Tape and Reel; Case/Size Code: CFPS-73; Length: 7.2mm; Width: 5.2mm; Height: 1.4mm; Frequency: 20MHz; Supply Voltage: 3.3V
footprint WE-SPXO_CFPS-73
pins: 1 Standby, 2 GND, 3 Output, 4 +Vs

## 831020184
designator Y?, comment 14.31818MHz, 3.3V  (value not drawn)
WE-SPXO Simple Packaged Quartz Oscillator, SMT, CFPS-73, 14.31818MHz, 3.3V; Manufacturer Part Number: 831020184; Manufacturer: Wurth Elektronik; Frequency Stability: +/-50ppm; ComponentLink1Description: Website Link; ComponentLink1URL: https://www.we-online.com/redexpert/article/831020184?ad; ComponentLink2Description: Datasheet Link; ComponentLink2URL: https://www.we-online.com/redexpert/spec/831020184?ad; Category: Oscillators; Match Code: WE-SPXO; Mount: Surface Mount; Operating Temperature Max: 85°C; Operating Temperature Min: -40°C; Packaging: Tape and Reel; Case/Size Code: CFPS-73; Length: 7.2mm; Width: 5.2mm; Height: 1.4mm; Frequency: 14.31818MHz; Supply Voltage: 3.3V
footprint WE-SPXO_CFPS-73
pins: 1 Standby, 2 GND, 3 Output, 4 +Vs

## 831020392
designator Y?, comment 18.432MHz, 3.3V  (value not drawn)
WE-SPXO Simple Packaged Quartz Oscillator, SMT, CFPS-73, 18.432MHz, 3.3V; Manufacturer Part Number: 831020392; Manufacturer: Wurth Elektronik; Frequency Stability: +/-50ppm; ComponentLink1Description: Website Link; ComponentLink1URL: https://www.we-online.com/redexpert/article/831020392?ad; ComponentLink2Description: Datasheet Link; ComponentLink2URL: https://www.we-online.com/redexpert/spec/831020392?ad; Category: Oscillators; Match Code: WE-SPXO; Mount: Surface Mount; Operating Temperature Max: 85°C; Operating Temperature Min: -40°C; Packaging: Tape and Reel; Case/Size Code: CFPS-73; Length: 7.2mm; Width: 5.2mm; Height: 1.4mm; Frequency: 18.432MHz; Supply Voltage: 3.3V
footprint WE-SPXO_CFPS-73
pins: 1 Standby, 2 GND, 3 Output, 4 +Vs

## 831020465
designator Y?, comment 12.288MHz, 3.3V  (value not drawn)
WE-SPXO Simple Packaged Quartz Oscillator, SMT, CFPS-73, 12.288MHz, 3.3V; Manufacturer Part Number: 831020465; Manufacturer: Wurth Elektronik; Frequency Stability: +/-50ppm; ComponentLink1Description: Website Link; ComponentLink1URL: https://www.we-online.com/redexpert/article/831020465?ad; ComponentLink2Description: Datasheet Link; ComponentLink2URL: https://www.we-online.com/redexpert/spec/831020465?ad; Category: Oscillators; Match Code: WE-SPXO; Mount: Surface Mount; Operating Temperature Max: 70°C; Operating Temperature Min: 0°C; Packaging: Tape and Reel; Case/Size Code: CFPS-73; Length: 7.2mm; Width: 5.2mm; Height: 1.4mm; Frequency: 12.288MHz; Supply Voltage: 3.3V
footprint WE-SPXO_CFPS-73
pins: 1 Standby, 2 GND, 3 Output, 4 +Vs

## 831020466
designator Y?, comment 16.384MHz, 3.3V  (value not drawn)
WE-SPXO Simple Packaged Quartz Oscillator, SMT, CFPS-73, 16.384MHz, 3.3V; Manufacturer Part Number: 831020466; Manufacturer: Wurth Elektronik; Frequency Stability: +/-50ppm; ComponentLink1Description: Website Link; ComponentLink1URL: https://www.we-online.com/redexpert/article/831020466?ad; ComponentLink2Description: Datasheet Link; ComponentLink2URL: https://www.we-online.com/redexpert/spec/831020466?ad; Category: Oscillators; Match Code: WE-SPXO; Mount: Surface Mount; Operating Temperature Max: 70°C; Operating Temperature Min: 0°C; Packaging: Tape and Reel; Case/Size Code: CFPS-73; Length: 7.2mm; Width: 5.2mm; Height: 1.4mm; Frequency: 16.384MHz; Supply Voltage: 3.3V
footprint WE-SPXO_CFPS-73
pins: 1 Standby, 2 GND, 3 Output, 4 +Vs

## 831020502
designator Y?, comment 4MHz, 5V  (value not drawn)
WE-SPXO Simple Packaged Quartz Oscillator, SMT, CFPS-72, 4MHz, 5V; Manufacturer Part Number: 831020502; Manufacturer: Wurth Elektronik; Frequency Stability: +/-50ppm; ComponentLink1Description: Website Link; ComponentLink1URL: https://www.we-online.com/redexpert/article/831020502?ad; ComponentLink2Description: Datasheet Link; ComponentLink2URL: https://www.we-online.com/redexpert/spec/831020502?ad; Category: Oscillators; Match Code: WE-SPXO; Mount: Surface Mount; Operating Temperature Max: 85°C; Operating Temperature Min: -40°C; Packaging: Tape and Reel; Case/Size Code: CFPS-72; Length: 7.2mm; Width: 5.2mm; Height: 1.4mm; Frequency: 4MHz; Supply Voltage: 5V
footprint WE-SPXO_CFPS-72
pins: 1 Standby, 2 GND, 3 Output, 4 +Vs

## 831021270
designator Y?, comment 24MHz, 3.3V  (value not drawn)
WE-SPXO Simple Packaged Quartz Oscillator, SMT, CFPS-73, 24MHz, 3.3V; Manufacturer Part Number: 831021270; Manufacturer: Wurth Elektronik; Frequency Stability: +/-50ppm; ComponentLink1Description: Website Link; ComponentLink1URL: https://www.we-online.com/redexpert/article/831021270?ad; ComponentLink2Description: Datasheet Link; ComponentLink2URL: https://www.we-online.com/redexpert/spec/831021270?ad; Category: Oscillators; Match Code: WE-SPXO; Mount: Surface Mount; Operating Temperature Max: 85°C; Operating Temperature Min: -40°C; Packaging: Tape and Reel; Case/Size Code: CFPS-73; Length: 7.2mm; Width: 5.2mm; Height: 1.4mm; Frequency: 24MHz; Supply Voltage: 3.3V
footprint WE-SPXO_CFPS-73
pins: 1 Standby, 2 GND, 3 Output, 4 +Vs

## 831021890
designator Y?, comment 8MHz, 3.3V  (value not drawn)
WE-SPXO Simple Packaged Quartz Oscillator, SMT, CFPS-73, 8MHz, 3.3V; Manufacturer Part Number: 831021890; Manufacturer: Wurth Elektronik; Frequency Stability: +/-50ppm; ComponentLink1Description: Website Link; ComponentLink1URL: https://www.we-online.com/redexpert/article/831021890?ad; ComponentLink2Description: Datasheet Link; ComponentLink2URL: https://www.we-online.com/redexpert/spec/831021890?ad; Category: Oscillators; Match Code: WE-SPXO; Mount: Surface Mount; Operating Temperature Max: 85°C; Operating Temperature Min: -40°C; Packaging: Tape and Reel; Case/Size Code: CFPS-73; Length: 7.2mm; Width: 5.2mm; Height: 1.4mm; Frequency: 8MHz; Supply Voltage: 3.3V
footprint WE-SPXO_CFPS-73
pins: 1 Standby, 2 GND, 3 Output, 4 +Vs

## 831022731
designator Y?, comment 100MHz, 3.3V  (value not drawn)
WE-SPXO Simple Packaged Quartz Oscillator, SMT, CFPS-73, 100MHz, 3.3V; Manufacturer Part Number: 831022731; Manufacturer: Wurth Elektronik; Frequency Stability: +/-50ppm; ComponentLink1Description: Website Link; ComponentLink1URL: https://www.we-online.com/redexpert/article/831022731?ad; ComponentLink2Description: Datasheet Link; ComponentLink2URL: https://www.we-online.com/redexpert/spec/831022731?ad; Category: Oscillators; Match Code: WE-SPXO; Mount: Surface Mount; Operating Temperature Max: 85°C; Operating Temperature Min: -40°C; Packaging: Tape and Reel; Case/Size Code: CFPS-73; Length: 7.2mm; Width: 5.2mm; Height: 1.4mm; Frequency: 100MHz; Supply Voltage: 3.3V
footprint WE-SPXO_CFPS-73
pins: 1 Standby, 2 GND, 3 Output, 4 +Vs

## 831022825
designator Y?, comment 125MHz, 3.3V  (value not drawn)
WE-SPXO Simple Packaged Quartz Oscillator, SMT, CFPS-73, 125MHz, 3.3V; Manufacturer Part Number: 831022825; Manufacturer: Wurth Elektronik; Frequency Stability: +/-50ppm; ComponentLink1Description: Website Link; ComponentLink1URL: https://www.we-online.com/redexpert/article/831022825?ad; ComponentLink2Description: Datasheet Link; ComponentLink2URL: https://www.we-online.com/redexpert/spec/831022825?ad; Category: Oscillators; Match Code: WE-SPXO; Mount: Surface Mount; Operating Temperature Max: 85°C; Operating Temperature Min: -40°C; Packaging: Tape and Reel; Case/Size Code: CFPS-73; Length: 7.2mm; Width: 5.2mm; Height: 1.4mm; Frequency: 125MHz; Supply Voltage: 3.3V
footprint WE-SPXO_CFPS-73
pins: 1 Standby, 2 GND, 3 Output, 4 +Vs

## 831024589
designator Y?, comment 50MHz, 3.3V  (value not drawn)
WE-SPXO Simple Packaged Quartz Oscillator, SMT, CFPS-9, 50MHz, 3.3V; Manufacturer Part Number: 831024589; Manufacturer: Wurth Elektronik; Frequency Stability: +/-50ppm; ComponentLink1Description: Website Link; ComponentLink1URL: https://www.we-online.com/redexpert/article/831024589?ad; ComponentLink2Description: Datasheet Link; ComponentLink2URL: https://www.we-online.com/redexpert/spec/831024589?ad; Category: Oscillators; Match Code: WE-SPXO; Mount: Surface Mount; Operating Temperature Max: 85°C; Operating Temperature Min: -40°C; Packaging: Tape and Reel; Case/Size Code: CFPS-9; Length: 5.2mm; Width: 3.4mm; Height: 1.3mm; Frequency: 50MHz; Supply Voltage: 3.3V
footprint WE-SPXO_CFPS-9
pins: 1 Enable, 2 GND, 3 Output, 4 +Vs

## 831024807
designator Y?, comment 10MHz, 3.3V  (value not drawn)
WE-SPXO Simple Packaged Quartz Oscillator, SMT, CFPS-9, 10MHz, 3.3V; Manufacturer Part Number: 831024807; Manufacturer: Wurth Elektronik; Frequency Stability: +/-50ppm; ComponentLink1Description: Website Link; ComponentLink1URL: https://www.we-online.com/redexpert/article/831024807?ad; ComponentLink2Description: Datasheet Link; ComponentLink2URL: https://www.we-online.com/redexpert/spec/831024807?ad; Category: Oscillators; Match Code: WE-SPXO; Mount: Surface Mount; Operating Temperature Max: 85°C; Operating Temperature Min: -40°C; Packaging: Tape and Reel; Case/Size Code: CFPS-9; Length: 5.2mm; Width: 3.4mm; Height: 1.3mm; Frequency: 10MHz; Supply Voltage: 3.3V
footprint WE-SPXO_CFPS-9
pins: 1 Enable, 2 GND, 3 Output, 4 +Vs

## 831024880
designator Y?, comment 32MHz, 3.3V  (value not drawn)
WE-SPXO Simple Packaged Quartz Oscillator, SMT, CFPS-9, 32MHz, 3.3V; Manufacturer Part Number: 831024880; Manufacturer: Wurth Elektronik; Frequency Stability: +/-50ppm; ComponentLink1Description: Website Link; ComponentLink1URL: https://www.we-online.com/redexpert/article/831024880?ad; ComponentLink2Description: Datasheet Link; ComponentLink2URL: https://www.we-online.com/redexpert/spec/831024880?ad; Category: Oscillators; Match Code: WE-SPXO; Mount: Surface Mount; Operating Temperature Max: 85°C; Operating Temperature Min: -40°C; Packaging: Tape and Reel; Case/Size Code: CFPS-9; Length: 5.2mm; Width: 3.4mm; Height: 1.3mm; Frequency: 32MHz; Supply Voltage: 3.3V
footprint WE-SPXO_CFPS-9
pins: 1 Enable, 2 GND, 3 Output, 4 +Vs

## 831024957
designator Y?, comment 25MHz, 3.3V  (value not drawn)
WE-SPXO Simple Packaged Quartz Oscillator, SMT, CFPS-9, 25MHz, 3.3V; Manufacturer Part Number: 831024957; Manufacturer: Wurth Elektronik; Frequency Stability: +/-50ppm; ComponentLink1Description: Website Link; ComponentLink1URL: https://www.we-online.com/redexpert/article/831024957?ad; ComponentLink2Description: Datasheet Link; ComponentLink2URL: https://www.we-online.com/redexpert/spec/831024957?ad; Category: Oscillators; Match Code: WE-SPXO; Mount: Surface Mount; Operating Temperature Max: 85°C; Operating Temperature Min: -40°C; Packaging: Tape and Reel; Case/Size Code: CFPS-9; Length: 5.2mm; Width: 3.4mm; Height: 1.3mm; Frequency: 25MHz; Supply Voltage: 3.3V
footprint WE-SPXO_CFPS-9
pins: 1 Enable, 2 GND, 3 Output, 4 +Vs

## 831024978
designator Y?, comment 4MHz, 3.3V  (value not drawn)
WE-SPXO Simple Packaged Quartz Oscillator, SMT, CFPS-9, 4MHz, 3.3V; Manufacturer Part Number: 831024978; Manufacturer: Wurth Elektronik; Frequency Stability: +/-50ppm; ComponentLink1Description: Website Link; ComponentLink1URL: https://www.we-online.com/redexpert/article/831024978?ad; ComponentLink2Description: Datasheet Link; ComponentLink2URL: https://www.we-online.com/redexpert/spec/831024978?ad; Category: Oscillators; Match Code: WE-SPXO; Mount: Surface Mount; Operating Temperature Max: 85°C; Operating Temperature Min: -40°C; Packaging: Tape and Reel; Case/Size Code: CFPS-9; Length: 5.2mm; Width: 3.4mm; Height: 1.3mm; Frequency: 4MHz; Supply Voltage: 3.3V
footprint WE-SPXO_CFPS-9
pins: 1 Enable, 2 GND, 3 Output, 4 +Vs